# Altium footprint library PCB21.PcbLib: 48 footprints (part 1 of 3)
Each footprint in its own frame and in the unit in brackets; x right, y up, seen from the top. Pads: shape width x height; smd on the part's side, far side on the other; paste and mask are expansions set on the pad; w line width, h text height; cw(c..) or ccw(c..) is an arc to the next point about the centre after c.
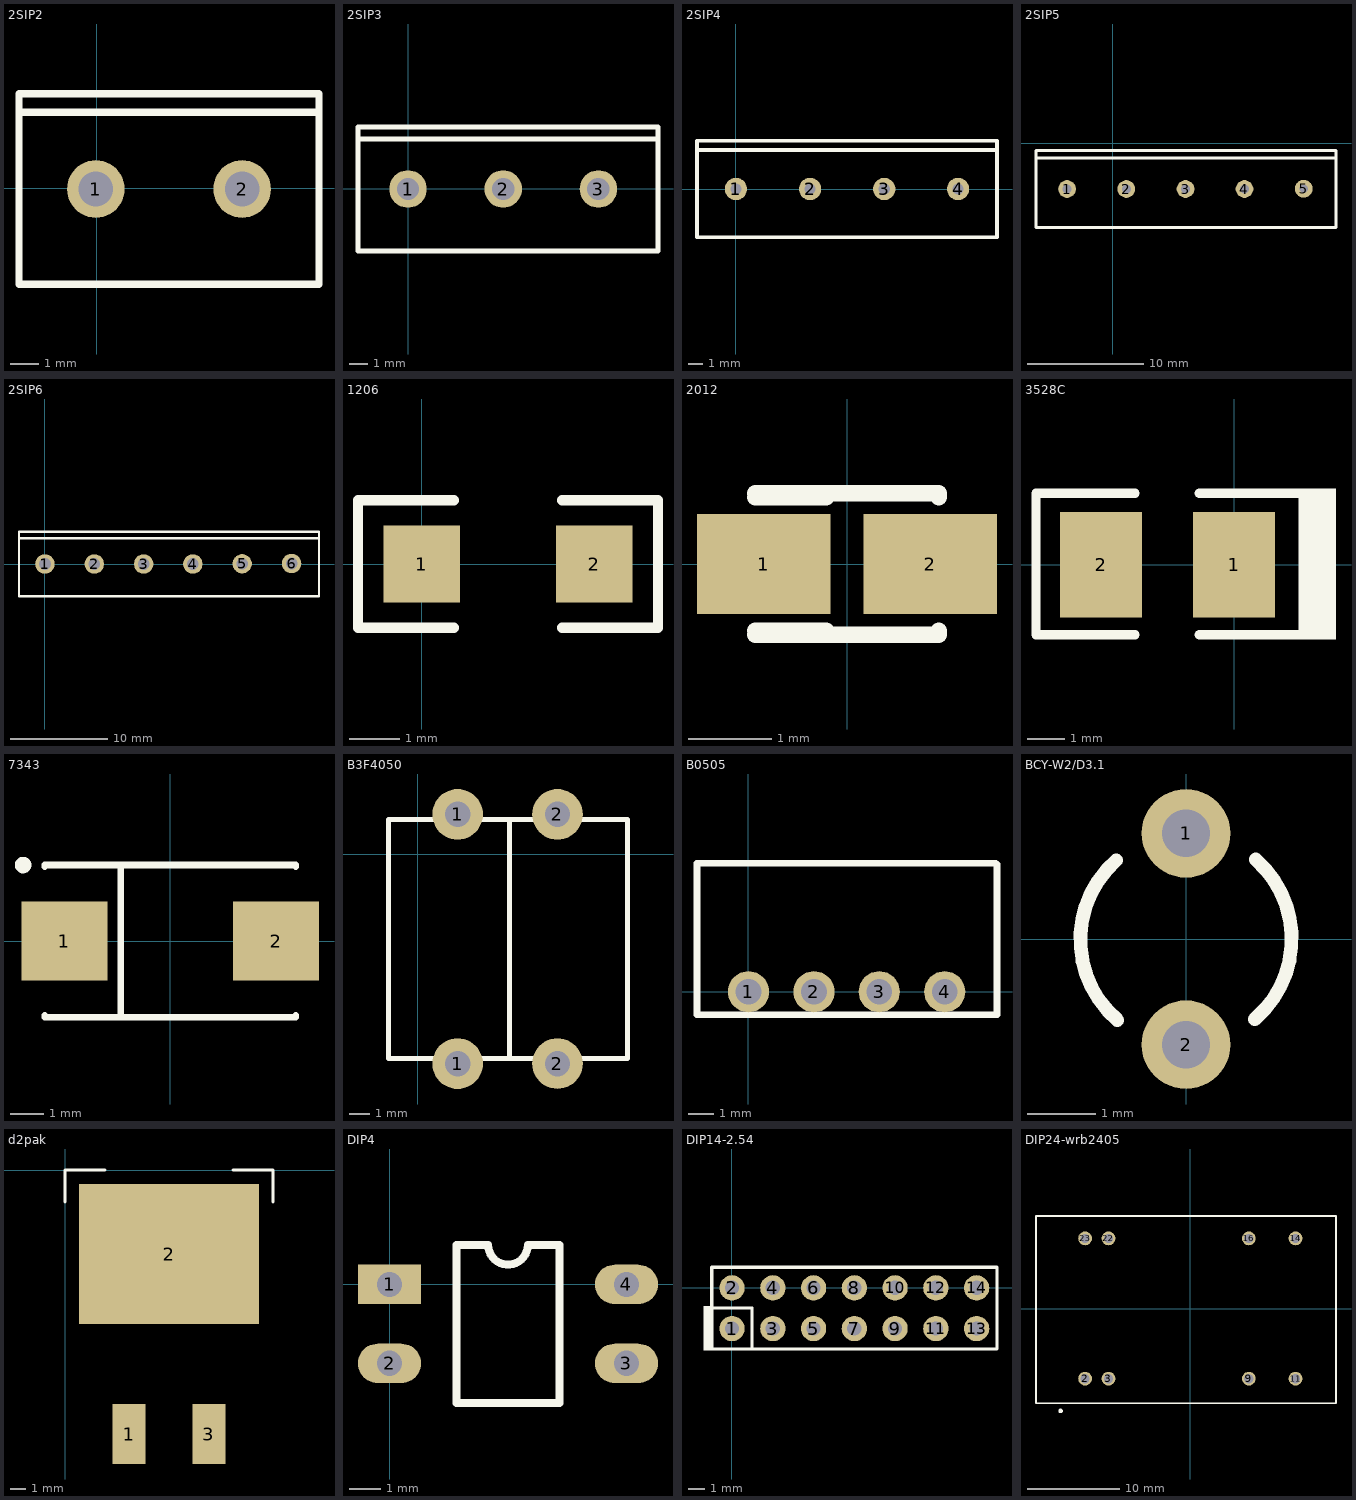
[diagram p0: the footprints below, top view; thin cyan lines are the x and y axes]

## 2SIP2 [mm]
pads (2):
  round 2 hole 1.2: 1(-0.025,-0.025) 2(5.055,-0.025)
Top Overlay:
  lines w0.254: -2.692,2.642 7.722,2.642 ; -2.692,-3.327 -2.692,3.277 7.722,3.277 7.722,-3.327 -2.692,-3.327

## 2SIP3 [mm]
pads (3):
  round 2 hole 1.2: 1(-0.025,-0.025) 2(5.055,-0.025) 3(10.135,-0.025)
Top Overlay:
  lines w0.254: -2.692,2.642 13.31,2.642 ; -2.692,-3.327 13.31,-3.327 13.31,3.277 -2.692,3.277 -2.692,-3.327

## 2SIP4 [mil]
pads (4):
  round 60 hole 30: 1(0,0) 2(200,0) 3(400,0) 4(599,0)
Top Overlay:
  lines w10: -105,105 704,105 ; -105,-130 704,-130 704,130 -105,130 -105,-130

## 2SIP5 [mil]
pads (5):
  round 60 hole 30: 1(-154,-154) 2(46,-154) 3(246,-154) 4(445,-154) 5(645,-153)
Top Overlay:
  lines w10: -259,-49 754,-49 ; -259,-284 -259,-24 754,-24 754,-284 -259,-284

## 2SIP6 [mm]
pads (6):
  round 2 hole 1.2: 1(0,0) 2(5.08,0) 3(10.16,0) 4(15.215,0) 5(20.295,0.025) 6(25.375,0.051)
Top Overlay:
  lines w0.254: -2.667,2.667 28.194,2.667 ; -2.667,-3.302 -2.667,3.302 28.194,3.302 28.194,-3.302 -2.667,-3.302

## 1206 [mil]
pads (2):
  rect 60x60 smd: 1(0,0) 2(135,0)
Top Overlay:
  lines w8: 25,-50 -50,-50 -50,50 25,50 ; 110,-50 185,-50 185,50 110,50

## 2012 [mm] "Capacitor, SM Tantalum; Body 2.0 x 1.25 mm (LxW typ)"
height 1.2
pads (2):
  rect 1.6x1.2 smd: 1(-1,0) 2(1,0)
Top Overlay:
  lines w0.2: -1.1,-0.85 1.1,-0.85 1.1,-0.8 ; -1.1,-0.8 -0.25,-0.8 ; -1.1,0.8 -0.25,0.8 ; -1.1,0.85 1.1,0.85 1.1,0.8

## 3528C [mm]
pads (2):
  rect 2.2x2.85 smd: 1(0,0) 2(-3.581,0)
Top Overlay:
  rectangle: 1.731,-2.013 2.747,2.059
  lines w0.254: -2.667,-1.88 -5.334,-1.88 -5.334,1.93 -2.667,1.93 ; -0.94,-1.88 1.727,-1.88 ; -0.94,1.93 1.727,1.93

## 7343 [mm] "Capacitor, SM Tantalum; Body 7.3 x 4.3 mm (LxW typ)"
height 3.7
pads (2):
  rect 2.6x2.4 smd: 1(-3.2,0) 2(3.2,0)
Top Overlay:
  circle w0.25: c-4.45,2.3 r0.125
  lines w0.2: -3.8,-2.25 -3.8,-2.3 3.8,-2.3 3.8,-2.25 ; -3.8,2.25 -3.8,2.3 3.8,2.3 3.8,2.25 ; -1.5,-2.3 -1.5,2.3

## B3F4050 [mm]
pads (4):
  round 2.54 hole 1.27: 1(2,-10.5) 1(2,2) 2(7,-10.497) 2(7,2)
Top Overlay:
  lines w0.254: 4.597,-10.25 4.597,1.75 ; -1.473,-10.25 10.516,-10.25 10.516,1.75 -1.473,1.75 -1.473,-10.25

## B0505 [mm]
pads (4):
  round 1.6 hole 1: 1(0,0) 2(2.54,0) 3(5.08,0) 4(7.62,0)
Top Overlay:
  lines w0.254: 9.6,-0.9 -2,-0.9 -2,5 9.6,5 ; 9.652,-0.889 9.652,4.953

## BCY-W2/D3.1 [mm] "Crystal, Thru-Hole; 2 Leads; Body 3.1 x 8.2 mm (Dia.xH)"
height 8.2
pads (2):
  round 1.3 hole 0.7: 1(0,1.55) 2(0,-1.55)
Top Overlay:
  lines w0.2: -1.022,1.155 ccw(c0,-0.01) -1.006,-1.189 ; 1.006,-1.179 ccw(c0,0) 1.022,1.165

## d2pak [mil]
pads (3):
  rect 82x150 smd: 1(160,-660) 3(360,-660)
  rect 450x350 smd: 2(260,-210)
Top Overlay:
  lines w8: 0,-80 0,0 100,0 ; 420,0 520,0 520,-80

## DIP4 [mil]
pads (4):
  rect 80x50 hole 32: 1(0,0)
  oval 80x50 hole 32: 2(0,-100) 3(300,-100) 4(300,0)
Top Overlay:
  lines w10: 85,-150 85,50 125,50 ccw(c150,50) 175,50 215,50 215,-150 85,-150

## DIP14-2.54 [mil]
pads (14):
  round 62 hole 35: 1(1,-99.67) 2(1,0.33) 3(101,-99.67) 4(101,0.33) 5(201,-99.67) 6(201,0.33) 7(301,-99.67) 8(301,0.33) 9(401,-99.67) 10(401,0.33) 11(501,-99.67) 12(501,0.33) 13(601,-99.67) 14(601,0.33)
Top Overlay:
  rectangle: -69,-153.67 -49,-44
  lines w8: -49,-49 49,-49 50,-50 50,-148.67 49,-149.67 ; -49,-149.67 651,-149.67 651,51 -49,51 -49,-149.67

## DIP24-wrb2405 [mm]
height 9.65
pads (8):
  round 1.5 hole 1: 2(-11.43,-7.62) 3(-8.89,-7.62) 9(6.35,-7.62) 11(11.43,-7.62) 14(11.43,7.62) 16(6.35,7.62) 22(-8.89,7.62) 23(-11.43,7.62)
Top Overlay:
  circle w0.25: c-14.095,-11.125 r0.125
  lines w0.2: -16.764,-10.287 -16.764,10.058 15.824,10.058 15.824,-10.287 -16.764,-10.287